# EAGLE library part 687112183622 (library Eagle_FPC_CONNECTOR_AND_FFC_CAB (rev18c))
687112183622 WR-FPC 0.50mm SMT Horizontal Top Contact - Low Profile <http://katalog.we-online.de/media/images/v2/Family_WR-FPC_6871xx183622.jpg> Details see: http://katalog.we-online.de/en/em/FPC_0_5_SMT_ZIF_HORIZONTAL_TOP_CONTACT_LOW_PROFILE_6871xx183622 Created by Yingchun,shan 2016 (C) Wurth Elektronik
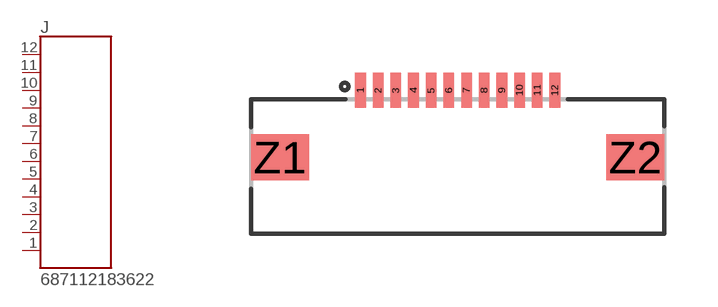
[diagram p178: symbol with the pads of 687112183622; footprint 687112183622]

Designator prefix J

## 687112183622  [687112183622]
1  12  pas
2  11  pas
3  10  pas
4  9  pas
5  8  pas
6  7  pas
7  6  pas
8  5  pas
9  4  pas
10  3  pas
11  2  pas
12  1  pas

## Footprint 687112183622 (pad centres in mm)
smd 0.3 x 1: 1 -2.75,1.9; 2 -2.25,1.9; 3 -1.75,1.9; 4 -1.25,1.9; 5 -0.75,1.9; 6 -0.25,1.9; 7 0.25,1.9; 8 0.75,1.9; 9 1.25,1.9; 10 1.75,1.9; 11 2.25,1.9; 12 2.75,1.9
smd 1.65 x 1.3: Z1 -5.025,0; Z2 5.025,0